# Altium integrated library Telit.IntLib: 2 symbols
Pins are listed as number, name and electrical type; pins without a type are passive.

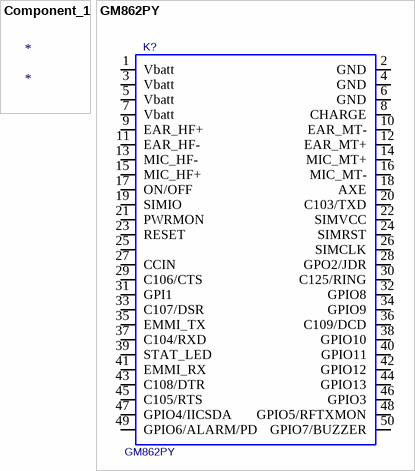
[diagram p0: symbols Component_1 to GM862PY]

## Component_1
designator *

## GM862PY
designator K?
Value: *
footprint GM862
pins: 1 Vbatt (power), 2 GND (power), 3 Vbatt (power), 4 GND (power), 5 Vbatt (power), 6 GND (power), 7 Vbatt (power), 8 CHARGE, 9 EAR_HF+, 10 EAR_MT-, 11 EAR_HF-, 12 EAR_MT+, 13 MIC_HF-, 14 MIC_MT+, 15 MIC_HF+, 16 MIC_MT-, 17 ON/OFF, 18 AXE, 19 SIMIO, 20 C103/TXD, 21 PWRMON, 22 SIMVCC, 23 RESET, 24 SIMRST, 25, 26 SIMCLK, 27 CCIN, 28 GPO2/JDR, 29 C106/CTS, 30 C125/RING, 31 GPI1, 32 GPIO8, 33 C107/DSR, 34 GPIO9, 35 EMMI_TX, 36 C109/DCD, 37 C104/RXD, 38 GPIO10, 39 STAT_LED, 40 GPIO11, 41 EMMI_RX, 42 GPIO12, 43 C108/DTR, 44 GPIO13, 45 C105/RTS, 46 GPIO3, 47 GPIO4/IICSDA, 48 GPIO5/RFTXMON, 49 GPIO6/ALARM/PD, 50 GPIO7/BUZZER, 51 GND (power) hidden, 52 GND (power) hidden, 53 GND (power) hidden, 54 GND (power) hidden, 55 GND (power) hidden, 56 GND (power) hidden, 57 GND (power) hidden, 58 GND (power) hidden, 59 GND (power) hidden, 60 GND (power) hidden, 61 GND (power) hidden